# EAGLE library part AT86RF230-*-? (library shcustomlib)
AT86RF230 Package(s): QFN32 Manufacturer(s): Microchip Technology/Atmel High Performance RF-CMOS 2.4 GHz Radio Transceiver Targeted for IEEE 802.15.4, Zigbee, 6LoWPAN, RF4CE,SP100, WirelessHART and ISM Applications
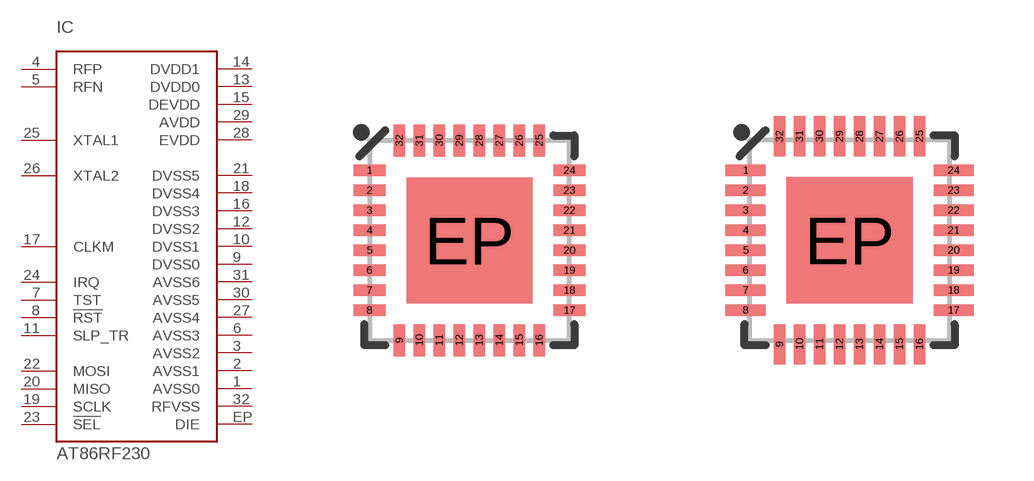
[diagram p0: symbol with the pads of QFN-32-5X5MM; footprints QFN-32-5X5MM, QFN-32-5X5MM-HS]

Designator prefix IC

## AT86RF230-ZU-QN, AT86RF230-ZUR-QN  [QFN-32-5X5MM]
1  AVSS0
2  AVSS1
3  AVSS2
4  RFP
5  RFN
6  AVSS3
7  TST
8  !RST!
9  DVSS0
10  DVSS1
11  SLP_TR
12  DVSS2
13  DVDD0
14  DVDD1
15  DEVDD
16  DVSS3
17  CLKM
18  DVSS4
19  SCLK
20  MISO
21  DVSS5
22  MOSI
23  !SEL!
24  IRQ
25  XTAL1
26  XTAL2
27  AVSS4
28  EVDD
29  AVDD
30  AVSS5
31  AVSS6
32  RFVSS
EP  DIE

## AT86RF230-ZU-QNH, AT86RF230-ZUR-QNH  [QFN-32-5X5MM-HS]
Pads as for QFN-32-5X5MM

## Footprint QFN-32-5X5MM (pad centres in mm)
smd 0.8 x 0.285: 1 -2.5,1.75; 2 -2.5,1.25; 3 -2.5,0.75; 4 -2.5,0.25; 5 -2.5,-0.25; 6 -2.5,-0.75; 7 -2.5,-1.25; 8 -2.5,-1.75; 17 2.5,-1.75; 18 2.5,-1.25; 19 2.5,-0.75; 20 2.5,-0.25; 21 2.5,0.25; 22 2.5,0.75; 23 2.5,1.25; 24 2.5,1.75
smd 0.285 x 0.8: 9 -1.75,-2.5; 10 -1.25,-2.5; 11 -0.75,-2.5; 12 -0.25,-2.5; 13 0.25,-2.5; 14 0.75,-2.5; 15 1.25,-2.5; 16 1.75,-2.5; 25 1.75,2.5; 26 1.25,2.5; 27 0.75,2.5; 28 0.25,2.5; 29 -0.25,2.5; 30 -0.75,2.5; 31 -1.25,2.5; 32 -1.75,2.5
smd 3.15 x 3.15: EP 0,0

## Footprint QFN-32-5X5MM-HS (pad centres in mm)
smd 1 x 0.285: 1 -2.6,1.75; 2 -2.6,1.25; 3 -2.6,0.75; 4 -2.6,0.25; 5 -2.6,-0.25; 6 -2.6,-0.75; 7 -2.6,-1.25; 8 -2.6,-1.75; 17 2.6,-1.75; 18 2.6,-1.25; 19 2.6,-0.75; 20 2.6,-0.25; 21 2.6,0.25; 22 2.6,0.75; 23 2.6,1.25; 24 2.6,1.75
smd 0.285 x 1: 9 -1.75,-2.6; 10 -1.25,-2.6; 11 -0.75,-2.6; 12 -0.25,-2.6; 13 0.25,-2.6; 14 0.75,-2.6; 15 1.25,-2.6; 16 1.75,-2.6; 25 1.75,2.6; 26 1.25,2.6; 27 0.75,2.6; 28 0.25,2.6; 29 -0.25,2.6; 30 -0.75,2.6; 31 -1.25,2.6; 32 -1.75,2.6
smd 3.15 x 3.15: EP 0,0